# Altium footprint library zyx.PcbLib: 17 footprints (part 4 of 4)
Each footprint in its own frame and in the unit in brackets; x right, y up, seen from the top. Pads: shape width x height; smd on the part's side, far side on the other; paste and mask are expansions set on the pad; w line width, h text height; cw(c..) or ccw(c..) is an arc to the next point about the centre after c.
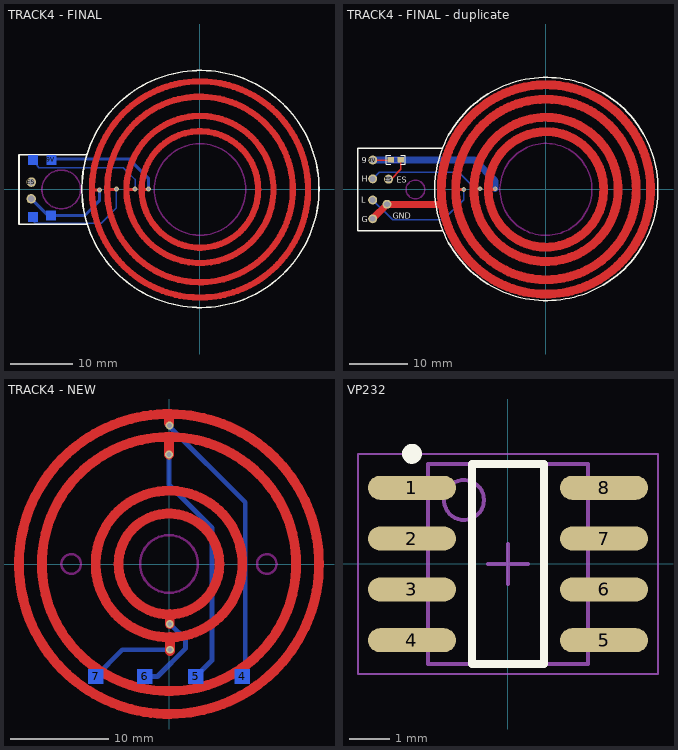
[diagram p3: the footprints below, top view; thin cyan lines are the x and y axes]

## TRACK4 - FINAL [mm]
pads (6):
  rect 1.524x1.524 smd far side: 9V(-23.8,4.725) CANH(-26.725,4.725) CANL(-26.775,-4.425) GND(-23.85,-4.2)
  round 1.524 hole 1: ES(-27.025,1.175) GND(-27.05,-1.5)
via -8.225,0.05 diameter 0.8 hole 0.5
via -10.4,0.05 diameter 0.8 hole 0.5
via -13.4,0.05 diameter 0.8 hole 0.5
via -16.125,-0.05 diameter 0.8 hole 0.5
Top Layer:
  circle w1: c0,0 r14.87
  circle w1: c0,0 r17.32
  circle w1: c0,0 r9.33
  circle w1: c0,0 r11.78
  lines w0.5: -17.35,-0.075 -16.25,-0.075 ; -14.775,0 -13.55,0 ; -11.925,0 -10.425,0 ; -9.4,0.025 -8.25,0.025
Bottom Layer:
  lines w0.254: -27.05,-1.5 -26.8,-1.5 ; -26.775,-4.425 -26.775,-5.025 -26.4,-5.4 -15.825,-5.4 -13.4,-2.975 -13.4,-2.175 -13.4,0.05 ; -26.725,4.725 -25.808,3.475 -12.275,3.475 -10.4,1.6 -10.4,0.05 ; -24.1,-4.45 -23.85,-4.2 ; -23.8,4.725 -23.45,4.9
  lines w0.5: -27.05,-1.5 -24.1,-4.45 ; -23.85,-4.2 -18.5,-4.2 -16.125,-1.825 -16.125,-0.05 ; -23.45,4.9 -11.4,4.9 -8.225,1.725 -8.225,0.05
Top Overlay:
  circle w0.254: c0.075,0.075 r19
  lines w0.254: -18.175,5.55 -29,5.55 -29,-5.55 -18.075,-5.55 ; -18.175,5.65 -18.025,5.8
Top Paste:
  circle w1: c0,0 r14.87
  circle w1: c0,0 r17.32
  circle w1: c0,0 r9.33
  circle w1: c0,0 r11.78
Top Solder:
  circle w1: c0,0 r14.87
  circle w1: c0,0 r17.32
  circle w1: c0,0 r9.33
  circle w1: c0,0 r11.78
Keep-Out Layer:
  circle w0.254: c0,0 r7.33
  circle w0.254: c-22.225,0 r3.1

## TRACK4 - FINAL - duplicate [mm]
pads (8):
  rect 1.1x1 smd: 1(-26.425,5.05) 2(-24.725,5.05)
  round 1.524 hole 1: 9V(-29.5,5) CANH(-29.5,1.8) CANL(-29.5,-1.8) ES(-26.8,1.75) GND(-29.5,-5) GND(-27.075,-2.525)
via -8.65,0.125 diameter 0.8 hole 0.5
via -13.975,-0.025 diameter 0.8 hole 0.5
via -11.237,0.1 diameter 0.8 hole 0.5
Top Layer:
  circle w1.5: c0,0 r15.37
  circle w1.5: c0,0 r17.82
  circle w1.5: c0,0 r9.83
  circle w1.5: c0,0 r12.28
  lines w0.254: -29.5,5 -26.475,5 ; -27.075,-2.525 -26.875,-2.6 ; -24.725,5.05 -24.725,3.4 -26.375,1.75 ; -11.825,0.1 -11.237,0.1 ; -26.375,1.75 -26.8,1.75 -26.375,1.75
  lines w0.5: -14.775,0 -13.975,0 ; -9.4,0.025 -8.875,0.025
  lines w1.2: -29.5,-5 -26.987,-2.488 -26.875,-2.6 ; -26.6,-2.575 -18.175,-2.575
Bottom Layer:
  lines w0.254: -29.5,-1.8 -26.1,-5.2 -17.45,-5.2 -13.975,-1.725 -13.975,-0.025 ; -29.5,1.8 -28.375,2.925 -14.825,2.925 -12,0.1 -11.237,0.1
  lines w1.2: -29.5,5 -12.175,5 -8.65,1.475 -8.65,0.125
Top Overlay:
  circle w0.254: c0.075,0.075 r19
  lines w0.2: -26.464,4.288 -27.226,4.288 -27.226,5.812 -26.464,5.812 ; -24.686,4.288 -23.924,4.288 -23.924,5.812 -24.686,5.812
  lines w0.254: -17.625,-7 -32,-7 -32,7 -17.625,7
  text "GND" at -26.1,-4.975 h1
  text "ES" at -25.4,1.125 h1
  text "9" at -31.4,4.475 h1
  text "H" at -31.325,1.325 h1
  text "L" at -31.425,-2.225 h1
  text "G" at -31.4,-5.625 h1
Top Paste:
  circle w1.5: c0,0 r15.37
  circle w1.5: c0,0 r17.82
  circle w1.5: c0,0 r9.83
  circle w1.5: c0,0 r12.28
Top Solder:
  circle w1.5: c0,0 r15.37
  circle w1.5: c0,0 r17.82
  circle w1.5: c0,0 r9.83
  circle w1.5: c0,0 r12.28
Keep-Out Layer:
  circle w0.254: c0,0 r7.83
  circle w0.254: c-22.225,0 r1.6
Mechanical 13:
  lines w0.025: -26.375,4.65 -26.375,5.45 -24.775,5.45 -24.775,4.65 -26.375,4.65
3D body: height 0.5, standoff 0, extent -25.9,4.6 -24.3,5.4

## TRACK4 - NEW [mm]
pads (4):
  rect 1.524x1.524 smd far side: 4(7.5,-11.5) 5(2.75,-11.5) 6(-2.5,-11.5) 7(-7.5,-11.5)
via 0.05,14.15 diameter 0.8 hole 0.5
via 0,11.2 diameter 0.8 hole 0.5
via 0.1,-8.775 diameter 0.8 hole 0.5
via 0.075,-6.15 diameter 0.8 hole 0.5
Top Layer:
  circle w1: c0,0 r5.16
  circle w1: c0,0 r7.5
  circle w1: c0,0 r15.34
  circle w1: c0,0 r13
  lines w1: 0,11.2 0,12.75 ; 0,14.4 0,15 ; 0.075,-6.15 0.075,-5.1 ; 0.1,-8.9 0.1,-7.475
Bottom Layer:
  lines w0.254: 0.05,14.05 0.05,14.15 ; 0.075,-6.15 0.125,-6.15
  lines w0.5: -7.5,-11.5 -4.775,-8.775 0.1,-8.775 ; -2.5,-11.5 -1.175,-11.5 1.7,-8.625 1.7,-7.725 0.125,-6.15 ; 0,11.2 0,8.1 4.4,3.7 4.4,-9.85 2.75,-11.5 ; 0.05,14.05 7.8,6.3 7.8,-11.2
Top Paste:
  circle w1: c0,0 r5.16
  circle w1: c0,0 r7.5
  circle w1: c0,0 r15.34
  circle w1: c0,0 r13
Top Solder:
  circle w1: c0,0 r5.16
  circle w1: c0,0 r7.5
  circle w1: c0,0 r15.34
  circle w1: c0,0 r13
Keep-Out Layer:
  circle w0.254: c10,0 r1
  circle w0.254: c-10,0 r1
  circle w0.254: c0,0 r2.95

## VP232 [mm]
pads (8):
  oval 2.2x0.6 smd: 1(-2.394,1.898) 2(-2.394,0.628) 3(-2.394,-0.642) 4(-2.394,-1.912) 5(2.406,-1.912) 6(2.406,-0.642) 7(2.406,0.628) 8(2.406,1.898)
Top Overlay:
  circle w0.25: c-2.394,2.748 r0.125
  lines w0.2: -0.894,-2.507 -0.894,2.493 0.906,2.493 0.906,-2.507 -0.894,-2.507
Mechanical 13:
  circle w0.1: c-1.094,1.593 r0.5
  lines w0.1: -1.994,-2.507 -1.994,2.493 2.006,2.493 2.006,-2.507 -1.994,-2.507
Mechanical 15:
  lines w0.05: -3.744,-2.757 -3.744,2.743 3.756,2.743 3.756,-2.757 -3.744,-2.757
  lines w0.1: -0.494,-0.007 0.506,-0.007 ; 0.006,-0.507 0.006,0.493
3D body: height 1.75, standoff 0.25, extent -1.994,-2.507 2.006,2.493